# EAGLE library part MB95F354LPF-G-SNE2 (library Fujitsu_By_element14_Batch_1)
8-bit Microcontrollers
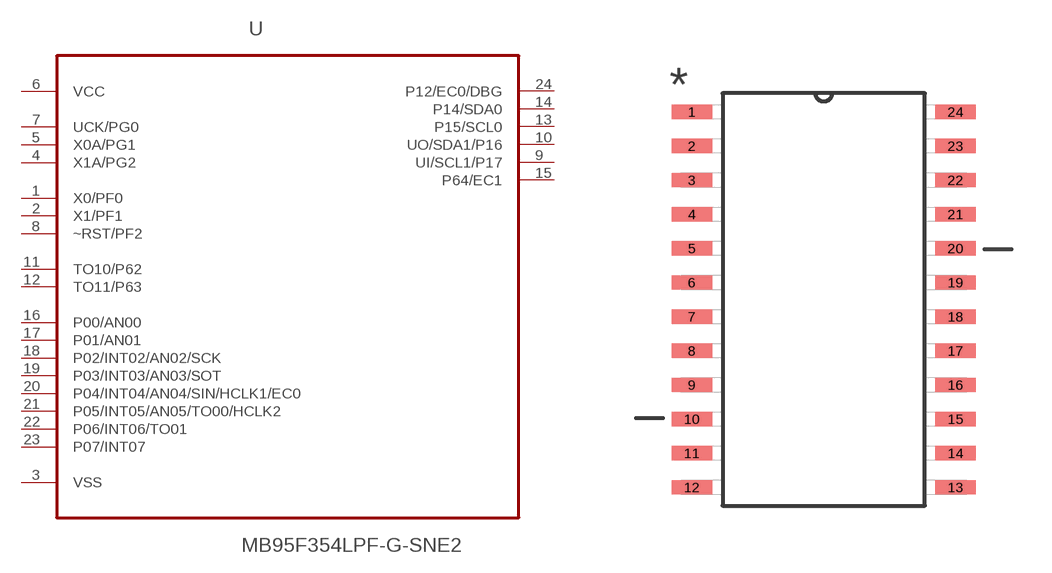
[diagram p6: symbol with the pads of SOP127PX1020X260-24N; footprint SOP127PX1020X260-24N]

Designator prefix U

## MB95F354LPF-G-SNE2 (MPN: MB95F354LPF-G-SNE2; OC_FARNELL: 1831959; OC_NEWARK: 93R5185; PACKAGE: SOP-24; SUPPLIER: FUJITSU)  [SOP127PX1020X260-24N]
1  X0/PF0
2  X1/PF1
3  VSS  pas
4  X1A/PG2
5  X0A/PG1
6  VCC  pwr
7  UCK/PG0
8  ~RST/PF2
9  UI/SCL1/P17
10  UO/SDA1/P16
11  TO10/P62
12  TO11/P63
13  P15/SCL0
14  P14/SDA0
15  P64/EC1
16  P00/AN00
17  P01/AN01
18  P02/INT02/AN02/SCK
19  P03/INT03/AN03/SOT
20  P04/INT04/AN04/SIN/HCLK1/EC0
21  P05/INT05/AN05/TO00/HCLK2
22  P06/INT06/TO01
23  P07/INT07
24  P12/EC0/DBG

## Footprint SOP127PX1020X260-24N (pad centres in mm)
smd 1.499 x 0.533: 1 -4.902,6.985; 2 -4.902,5.715; 3 -4.902,4.445; 4 -4.902,3.175; 5 -4.902,1.905; 6 -4.902,0.635; 7 -4.902,-0.635; 8 -4.902,-1.905; 9 -4.902,-3.175; 10 -4.902,-4.445; 11 -4.902,-5.715; 12 -4.902,-6.985; 13 4.902,-6.985; 14 4.902,-5.715; 15 4.902,-4.445; 16 4.902,-3.175; 17 4.902,-1.905; 18 4.902,-0.635; 19 4.902,0.635; 20 4.902,1.905; 21 4.902,3.175; 22 4.902,4.445; 23 4.902,5.715; 24 4.902,6.985